# Altium footprint library antenna.PcbLib: 1 footprints
Each footprint in its own frame and in the unit in brackets; x right, y up, seen from the top. Pads: shape width x height; smd on the part's side, far side on the other; paste and mask are expansions set on the pad; w line width, h text height; cw(c..) or ccw(c..) is an arc to the next point about the centre after c.
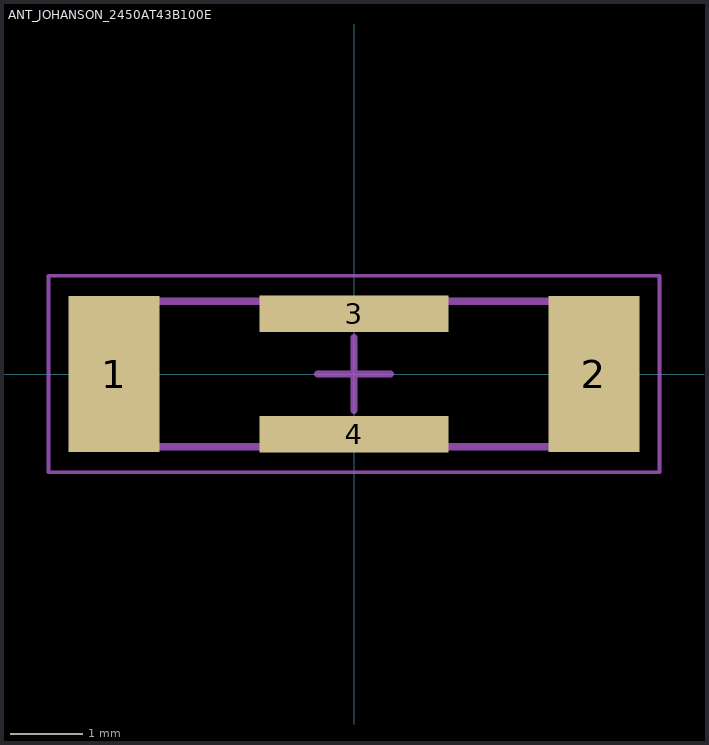
[diagram p0: the footprint, top view; thin cyan lines are the x and y axes]

## ANT_JOHANSON_2450AT43B100E [mm] "2.4GHz SMD antenna"
height 2
pads (4):
  rect 1.25x2.15 smd: 1(-3.3,0) 2(3.3,0)
  rect 2.6x0.5 smd: 3(0,0.83) 4(0,-0.83)
Mechanical 13:
  lines w0.1: -3.5,-1 -3.5,1 3.5,1 3.5,-1 -3.5,-1
Mechanical 15:
  lines w0.05: -4.2,-1.35 -4.2,1.35 4.2,1.35 4.2,-1.35 -4.2,-1.35
  lines w0.1: -0.5,0 0.5,0 ; 0,-0.5 0,0.5
3D body: height 2, standoff 0, extent -2.85,-1 2.85,1
3D body: height 2, standoff 0, extent -3.5,-1 -2.85,1
3D body: height 2, standoff 0, extent 2.85,-1 3.5,1